# Altium footprint library Varistor.PcbLib: 1 footprints
Each footprint in its own frame and in the unit in brackets; x right, y up, seen from the top. Pads: shape width x height; smd on the part's side, far side on the other; paste and mask are expansions set on the pad; w line width, h text height; cw(c..) or ccw(c..) is an arc to the next point about the centre after c.
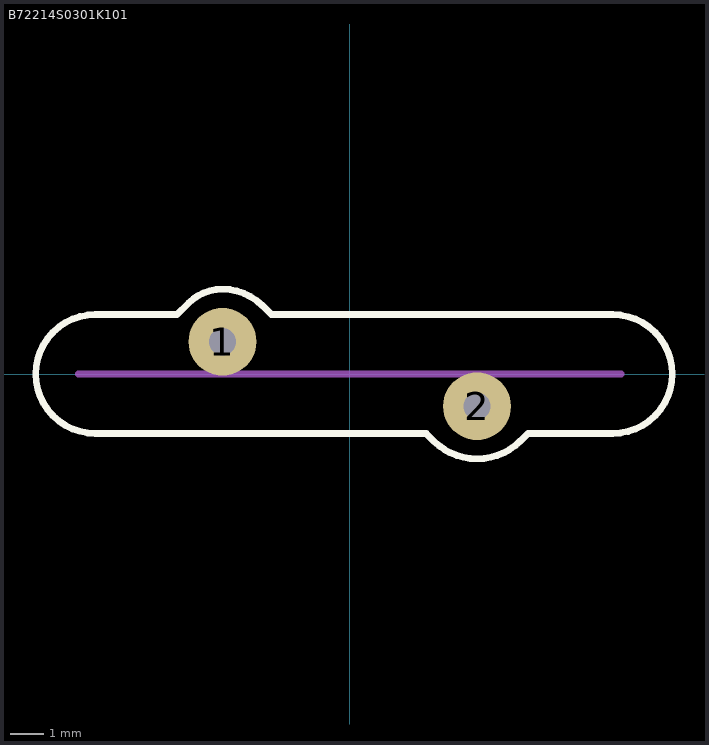
[diagram p0: the footprint, top view; thin cyan lines are the x and y axes]

## B72214S0301K101 [mm] "470 V 4.5 kA Varistor 1 Circuit Through Hole Disc 14mm"
pads (2):
  round 2 hole 0.8: 1(-3.75,0.95) 2(3.75,-0.95)
Top Overlay:
  lines w0.2: 2.25,-1.75 ccw(c2.25,-1.75) 2.25,-1.75 ; 7.73,-1.75 5.25,-1.75 5.031,-1.969 cw(c3.75,-0.688) 3.75,-2.5 cw(c3.75,-0.689) 2.47,-1.97 2.25,-1.75 ; 7.73,1.75 7.5,1.75 -2.311,1.75 -2.573,2.012 ccw(c-3.75,0.836) -3.75,2.5 ccw(c-3.75,1.081) -4.754,2.084 -5.088,1.75 -7.5,1.75 ccw(c-7.5,0) -7.5,-1.75 2.25,-1.75 ; 7.75,-1.75 ccw(c7.75,0) 7.75,1.75
Mechanical 13:
  lines w0.2: -8,0 0,0 8,0
3D body "s14k275e2.step": height 16.5, standoff -23.18, extent -7.5,-1.8 7.5,1.8